# Altium schematic symbol library Schlib_avionica_cosmonauta.SchLib: 6 symbols
Pins are listed as number, name and electrical type; pins without a type are passive.

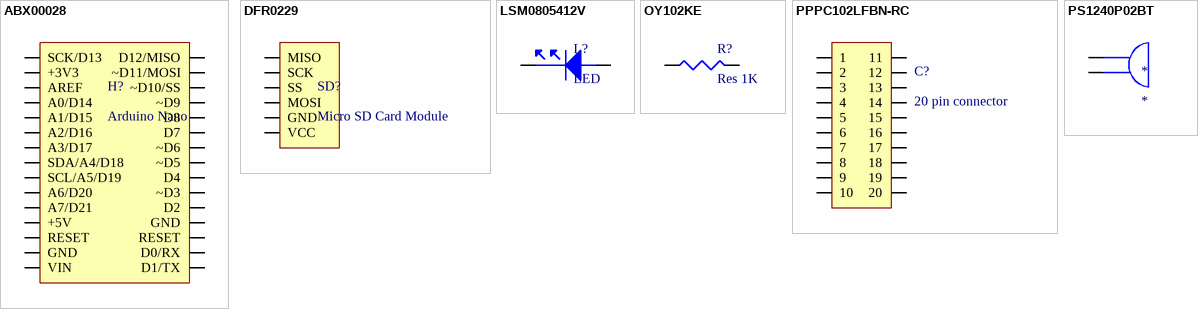
[diagram p0: symbols ABX00028 to PS1240P02BT]

## ABX00028
designator H?, comment Arduino Nano
ARDUINO - ABX00028 - NANO EVERY DEVELOPMENT BRD, 8BIT AVR MCU; Supplier 1: Digi-Key; Manufacturer: Arduino; Manufacturer Part Number: ABX00028; RoHS: No; Category: Embedded Processors and Controllers; Stock 1: 172; Pricing 1: 1=11,85000 (USD); ComponentLink1URL: http://www.farnell.com/datasheets/2968952.pdf?src-supplier=Farnell; ComponentLink1Description: http://www.farnell.com/datasheets/2968952.pdf?src-supplier=Farnell; ComponentLink2URL: http://www.farnell.com/datasheets/2968952.pdf?src-supplier=Newark; ComponentLink2Description: http://www.farnell.com/datasheets/2968952.pdf?src-supplier=Newark; Supplier Part Number 1: 1050-ABX00028-ND
pins: 1 SCK/D13, 2 +3V3, 3 AREF, 4 A0/D14, 5 A1/D15, 6 A2/D16, 7 A3/D17, 8 SDA/A4/D18, 9 SCL/A5/D19, 10 A6/D20, 11 A7/D21, 12 +5V, 13 RESET, 14 GND, 15 VIN, 16 D12/MISO, 17 ~D11/MOSI, 18 ~D10/SS, 19 ~D9, 20 D8, 21 D7, 22 ~D6, 23 ~D5, 24 D4, 25 ~D3, 26 D2, 27 GND, 28 RESET, 29 D0/RX, 30 D1/TX

## DFR0229
designator SD?, comment Micro SD Card Module
Manufacturer: DFRobot; Manufacturer Part Number: DFR0229; Supplier 1: Digi-Key; RoHS: No; Stock 1: 98; Pricing 1: 1=5,20000 (USD); ComponentLink1URL: https://media.digikey.com/pdf/Data%20Sheets/DFRobot%20PDFs/DFR0229_Web.pdf?src-supplier=Digi-Key; ComponentLink1Description: https://media.digikey.com/pdf/Data%20Sheets/DFRobot%20PDFs/DFR0229_Web.pdf?src-supplier=Digi-Key; Supplier Part Number 1: 1738-1038-ND
pins: 1 MISO, 2 SCK, 3 SS, 4 MOSI, 5 GND, 6 VCC

## LSM0805412V
designator L?, comment LED
LED Uni-Color Red 625nm Automotive 2-Pin Chip 0805(2012Metric) T/R; Manufacturer: Visual Communications; Manufacturer Part Number: LSM0805412V; Supplier 1: Digi-Key; RoHS: No; Stock 1: 14115; Pricing 1: 1=0,40000, 10=0,31500, 100=0,14130, 500=0,12762, 1000=0,10483 (USD); Supplier Part Number 1: 28-LSM0805412VCT-ND
pins: 1, 2

## OY102KE
designator R?, comment Res 1K
RES 1K OHM 2W 10% AXIAL; Manufacturer: Ohmite; Manufacturer Part Number: OY102KE; Voltage Rating (DC): 400V; Resistance: 1kR; Temperature Coefficient: 300ppm/°C; Lead Diameter: 0.8mm; Lead Length: 38mm; Wire/Cable Diameter: 0.031inch; Supplier 1: Digi-Key; RoHS: Yes; Category: Through-Hole Resistors; Stock 1: 3789; Pricing 1: 1=2,23000, 10=1,98000, 25=1,83600, 50=1,72800, 100=1,51200, 250=1,29600, 500=1,08000, 1000=0,95760 (USD); Mount: Through Hole; Case/Package: Axial; Material: Ceramic; Min Operating Temperature: -40°C; Max Operating Temperature: 220°C; Tolerance: 10%; Power Rating: 2W; Package Quantity: 50; Packaging: Bulk; Voltage Rating: 400V; Resistor Type: Ceramic; Number of Terminations: 2; Termination: Axial; Max Power Dissipation: 2W; Features: Moisture Resistant; Series: OY; Resistance Tolerance: 10%; Diameter: 7mm; Length: 0.748inch; REACH SVHC: Unknown; Lead Free: Lead Free; RoHS Compliant: Yes; ComponentLink1URL: https://datasheet.ciiva.com/2716/res-ox-oy-2716359.pdf?src-supplier=Digi-Key; ComponentLink1Description: https://datasheet.ciiva.com/2716/res-ox-oy-2716359.pdf?src-supplier=Digi-Key; ComponentLink2URL: https://datasheet.ciiva.com/16719/70022171-16719550.pdf?src-supplier=Allied+Electronics; ComponentLink2Description: https://datasheet.ciiva.com/16719/70022171-16719550.pdf?src-supplier=Allied+Electronics; ComponentLink3URL: https://datasheet.ciiva.com/7715/95960-7715869.pdf?src-supplier=Element14; ComponentLink3Description: https://datasheet.ciiva.com/7715/95960-7715869.pdf?src-supplier=Element14; Supplier Part Number 1: OY102KE-ND
pins: 1, 2

## PPPC102LFBN-RC
designator C?, comment 20 pin connector
Female, 20 C, Straight .100"CC; 3.20mm Tail, No Mt.; PBT, Phos. Bronze, 105 C; Manufacturer: Sullins; Manufacturer Part Number: PPPC102LFBN-RC; Color: Black; Connector Type: Header; Number of Positions: 20; Pitch: 0.1inch; Supplier 1: Digi-Key; RoHS: Yes; Category: Connectors; Stock 1: 16805; Pricing 1: 1=1,26000, 10=1,14400, 80=0,98088, 440=0,81743, 1000=0,70065, 5000=0,62280 (USD); Mount: Through Hole; Contact Plating: Gold; Contact Material: Bronze; Housing Material: Plastic; Termination: Solder; Package Quantity: 1000; Number of Rows: 2; Packaging: Bulk; Contact Type: Female Socket; Length: 25.9mm; Width: 5mm; Height: 8.5mm; Row Spacing: 0.1inch; RoHS Compliant: Yes; Lead Free: Lead Free; ComponentLink1URL: https://drawings-pdf.s3.amazonaws.com/10492.pdf?src-supplier=Digi-Key; ComponentLink1Description: https://drawings-pdf.s3.amazonaws.com/10492.pdf?src-supplier=Digi-Key; ComponentLink2URL: http://www.sullinscorp.com/catalogs/101_Page80-81_HEADER_.100_2.54mm_FEMALE.pdf?src-supplier=Future+Electronics; ComponentLink2Description: http://www.sullinscorp.com/catalogs/101_Page80-81_HEADER_.100_2.54mm_FEMALE.pdf?src-supplier=Future+Electronics; Supplier Part Number 1: S6106-ND
pins: 1, 2, 3, 4, 5, 6, 7, 8, 9, 10, 11, 12, 13, 14, 15, 16, 17, 18, 19, 20

## PS1240P02BT
designator *
TDK - PS1240P02BT - BUZZER, PIEZO, 70DB, 12.2MM; Number of Terminals/Pins: 2; Frequency: 4kHz; Operating Supply Voltage: 3V; Washable: No; Supplier 1: Digi-Key; Manufacturer: TDK; Manufacturer Part Number: PS1240P02BT; RoHS: Yes; Category: Audio Products; Stock 1: 27343; Pricing 1: 1=0,61000, 10=0,52500, 25=0,49120, 50=0,46580, 100=0,44110 (USD); Mount: Through Hole; Number of Pins: 2; Min Operating Temperature: -10°C; Max Operating Temperature: 70°C; Package Quantity: 1; Packaging: Tape and Reel; Termination: PC Pins; Voltage Rating (DC): 3V; Series: PS; Diameter: 12.2mm; Height: 6.5mm; Lead Free: Lead Free; RoHS Compliant: Yes; ComponentLink1URL: https://datasheet.ciiva.com/0/ef532-ps-112.pdf?src-supplier=Digi-Key; ComponentLink1Description: https://datasheet.ciiva.com/0/ef532-ps-112.pdf?src-supplier=Digi-Key; ComponentLink2URL: https://datasheet.ciiva.com/0/ef532-ps-111.pdf?src-supplier=Digi-Key; ComponentLink2Description: https://datasheet.ciiva.com/0/ef532-ps-111.pdf?src-supplier=Digi-Key; ComponentLink3URL: https://datasheet.ciiva.com/3306/ef532-ps-3306958.pdf?src-supplier=Avnet; ComponentLink3Description: https://datasheet.ciiva.com/3306/ef532-ps-3306958.pdf?src-supplier=Avnet; ComponentLink4URL: https://datasheet.ciiva.com/16225/ef532-ps-16225062.pdf?src-supplier=Onlinecomponents.com; ComponentLink4Description: https://datasheet.ciiva.com/16225/ef532-ps-16225062.pdf?src-supplier=Onlinecomponents.com; Supplier Part Number 1: 445-2525-1-ND
pins: 1, 2